# Altium integrated library 基本常见元器件.IntLib: 1193 symbols (part 5 of 5)
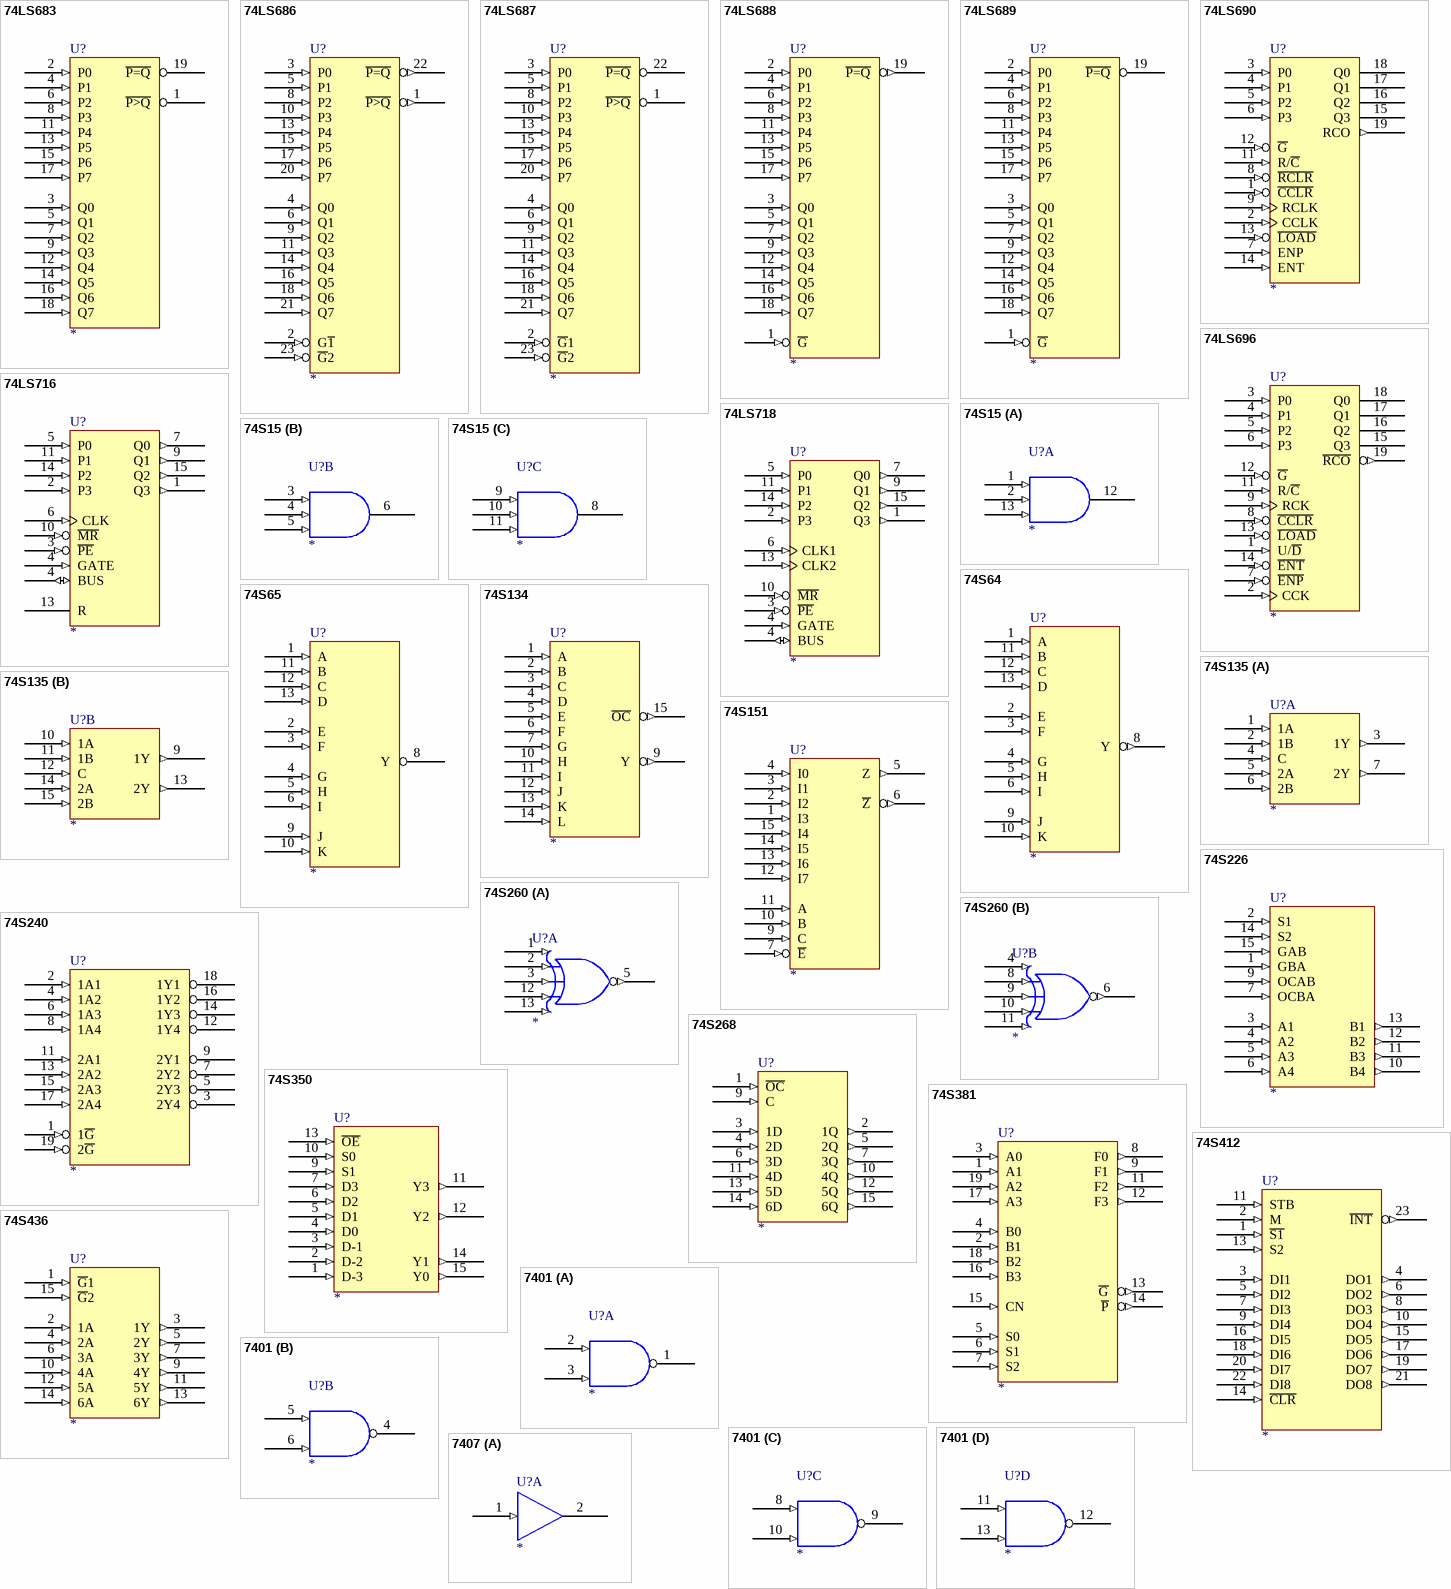
[diagram p58: symbols 74LS683 to 7407]

## 74S260
designator U?
footprint DIP-14
part A pins: 1 (in), 2 (in), 3 (in), 5 (out), 7 GND (power) hidden to GND, 12 (in), 13 (in), 14 VCC (power) hidden to VCC
part B pins: 4 (in), 6 (out), 7 GND (power) hidden to GND, 8 (in), 9 (in), 10 (in), 11 (in), 14 VCC (power) hidden to VCC

## 74S268
designator U?
footprint DIP-16
pins: 1 ~{OC} (in), 2 1Q (out), 3 1D (in), 4 2D (in), 5 2Q (out), 6 3D (in), 7 3Q (out), 8 GND (power) hidden to GND, 9 C (in), 10 4Q (out), 11 4D (in), 12 5Q (out), 13 5D (in), 14 6D (in), 15 6Q (out), 16 VCC (power) hidden to VCC

## 74S350
designator U?
footprint DIP-16
pins: 1 D-3 (in), 2 D-2 (in), 3 D-1 (in), 4 D0 (in), 5 D1 (in), 6 D2 (in), 7 D3 (in), 8 GND (power) hidden to GND, 9 S1 (in), 10 S0 (in), 11 Y3 (out), 12 Y2 (out), 13 ~{OE} (in), 14 Y1 (out), 15 Y0 (out), 16 VCC (power) hidden to VCC

## 74S381
designator U?
footprint DIP-20
pins: 1 A1 (in), 2 B1 (in), 3 A0 (in), 4 B0 (in), 5 S0 (in), 6 S1 (in), 7 S2 (in), 8 F0 (out), 9 F1 (out), 10 GND (power) hidden to GND, 11 F2 (out), 12 F3 (out), 13 ~{G} (out), 14 ~{P} (out), 15 CN (in), 16 B3 (in), 17 A3 (in), 18 B2 (in), 19 A2 (in), 20 VCC (power) hidden to VCC

## 74S412
designator U?
footprint DIP-24
pins: 1 ~{S1} (in), 2 M (in), 3 DI1 (in), 4 DO1 (out), 5 DI2 (in), 6 DO2 (out), 7 DI3 (in), 8 DO3 (out), 9 DI4 (in), 10 DO4 (out), 11 STB (in), 12 GND (power) hidden to GND, 13 S2 (in), 14 ~{CLR} (in), 15 DO5 (out), 16 DI5 (in), 17 DO6 (out), 18 DI6 (in), 19 DO7 (out), 20 DI7 (in), 21 DO8 (out), 22 DI8 (in), 23 ~{INT} (out), 24 VCC (power) hidden to VCC

## 74S436
designator U?
footprint DIP-16
pins: 1 ~{G}1 (in), 2 1A (in), 3 1Y (out), 4 2A (in), 5 2Y (out), 6 3A (in), 7 3Y (out), 8 GND (power) hidden to GND, 9 4Y (out), 10 4A (in), 11 5Y (out), 12 5A (in), 13 6Y (out), 14 6A (in), 15 ~{G}2 (in), 16 VCC (power) hidden to VCC

## 7401
designator U?
footprint DIP-14
part A pins: 1 (oc), 2 (in), 3 (in), 7 GND (power) hidden to GND, 14 VCC (power) hidden to VCC
part B pins: 4 (oc), 5 (in), 6 (in), 7 GND (power) hidden to GND, 14 VCC (power) hidden to VCC
part C pins: 7 GND (power) hidden to GND, 8 (in), 9 (oc), 10 (in), 14 VCC (power) hidden to VCC
part D pins: 7 GND (power) hidden to GND, 11 (in), 12 (oc), 13 (in), 14 VCC (power) hidden to VCC

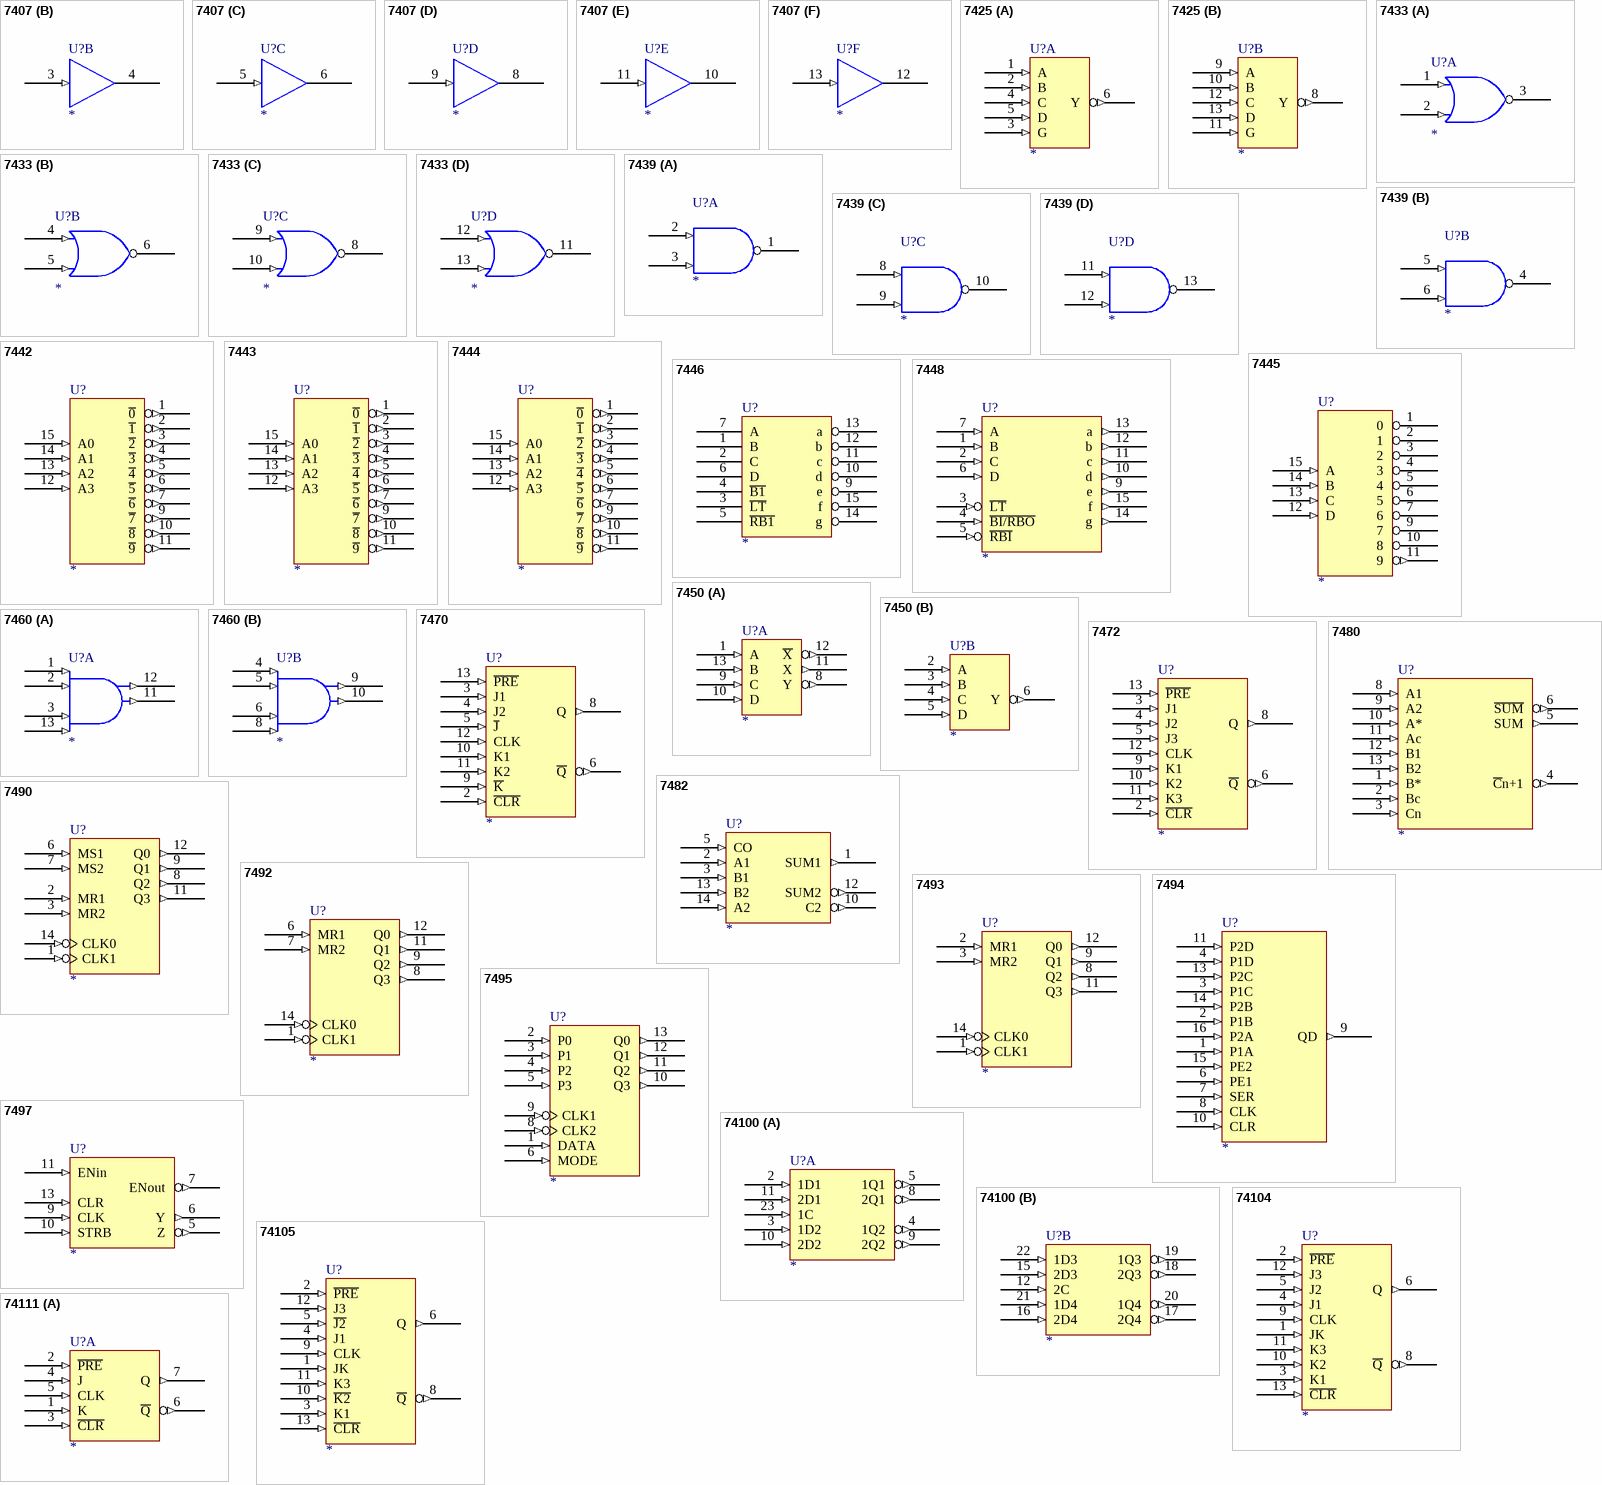
[diagram p42: symbols 7407 to 74111]

## 7407
designator U?
footprint DIP-14
part A pins: 1 (in), 2 (oc), 7 GND (power) hidden to GND, 14 VCC (power) hidden to VCC
part B pins: 3 (in), 4 (oc), 7 GND (power) hidden to GND, 14 VCC (power) hidden to VCC
part C pins: 5 (in), 6 (oc), 7 GND (power) hidden to GND, 14 VCC (power) hidden to VCC
part D pins: 7 GND (power) hidden to GND, 8 (oc), 9 (in), 14 VCC (power) hidden to VCC
part E pins: 7 GND (power) hidden to GND, 10 (oc), 11 (in), 14 VCC (power) hidden to VCC
part F pins: 7 GND (power) hidden to GND, 12 (oc), 13 (in), 14 VCC (power) hidden to VCC

## 7425
designator U?
footprint DIP-14
part A pins: 1 A (in), 2 B (in), 3 G (in), 4 C (in), 5 D (in), 6 Y (out), 7 GND (power) hidden to GND, 14 VCC (power) hidden to VCC
part B pins: 7 GND (power) hidden to GND, 8 Y (out), 9 A (in), 10 B (in), 11 G (in), 12 C (in), 13 D (in), 14 VCC (power) hidden to VCC

## 7433
designator U?
footprint DIP-14
part A pins: 1 (in), 2 (in), 3 (oc), 7 GND (power) hidden to GND, 14 VCC (power) hidden to VCC
part B pins: 4 (in), 5 (in), 6 (oc), 7 GND (power) hidden to GND, 14 VCC (power) hidden to VCC
part C pins: 7 GND (power) hidden to GND, 8 (oc), 9 (in), 10 (in), 14 VCC (power) hidden to VCC
part D pins: 7 GND (power) hidden to GND, 11 (oc), 12 (in), 13 (in), 14 VCC (power) hidden to VCC

## 7439
designator U?
footprint DIP-14
part A pins: 1 (oc), 2 (in), 3 (in), 7 GND (power) hidden to GND, 14 VCC (power) hidden to VCC
part B pins: 4 (oc), 5 (in), 6 (in), 7 GND (power) hidden to GND, 14 VCC (power) hidden to VCC
part C pins: 7 GND (power) hidden to GND, 8 (in), 9 (in), 10 (oc), 14 VCC (power) hidden to VCC
part D pins: 7 GND (power) hidden to GND, 11 (in), 12 (in), 13 (oc), 14 VCC (power) hidden to VCC

## 7442
designator U?
footprint DIP-16
pins: 1 ~{0} (out), 2 ~{1} (out), 3 ~{2} (out), 4 ~{3} (out), 5 ~{4} (out), 6 ~{5} (out), 7 ~{6} (out), 8 GND (power) hidden to GND, 9 ~{7} (out), 10 ~{8} (out), 11 ~{9} (out), 12 A3 (in), 13 A2 (in), 14 A1 (in), 15 A0 (in), 16 VCC (power) hidden to VCC

## 7443
designator U?
footprint DIP-16
pins: 1 ~{0} (out), 2 ~{1} (out), 3 ~{2} (out), 4 ~{3} (out), 5 ~{4} (out), 6 ~{5} (out), 7 ~{6} (out), 8 GND (power) hidden to GND, 9 ~{7} (out), 10 ~{8} (out), 11 ~{9} (out), 12 A3 (in), 13 A2 (in), 14 A1 (in), 15 A0 (in), 16 VCC (power) hidden to VCC

## 7444
designator U?
footprint DIP-16
pins: 1 ~{0} (out), 2 ~{1} (out), 3 ~{2} (out), 4 ~{3} (out), 5 ~{4} (out), 6 ~{5} (out), 7 ~{6} (out), 8 GND (power) hidden to GND, 9 ~{7} (out), 10 ~{8} (out), 11 ~{9} (out), 12 A3 (in), 13 A2 (in), 14 A1 (in), 15 A0 (in), 16 VCC (power) hidden to VCC

## 7445
designator U?
footprint DIP-16
pins: 1 0 (oc), 2 1 (oc), 3 2 (oc), 4 3 (oc), 5 4 (oc), 6 5 (oc), 7 6 (oc), 8 GND (power) hidden to GND, 9 7 (oc), 10 8 (oc), 11 9 (out), 12 D (in), 13 C (in), 14 B (in), 15 A (in), 16 VCC (power) hidden to VCC

## 7446
designator U?
footprint DIP-16
pins: 1 B, 2 C, 3 ~{LT}, 4 ~{B1}, 5 ~{RB1}, 6 D, 7 A, 8 GND (power) hidden to GND, 9 e (oc), 10 d (oc), 11 c (oc), 12 b (oc), 13 a (oc), 14 g (oc), 15 f (oc), 16 VCC (power) hidden to VCC

## 7448
designator U?
footprint DIP-16
pins: 1 B (in), 2 C (in), 3 ~{LT} (in), 4 ~{BI/RBO} (in), 5 ~{RBI} (in), 6 D (in), 7 A (in), 8 GND (power) hidden to GND, 9 e (out), 10 d (out), 11 c (out), 12 b (out), 13 a (out), 14 g (out), 15 f (out), 16 VCC (power) hidden to VCC

## 7450
designator U?
footprint DIP-14
part A pins: 1 A (in), 7 GND (power) hidden to GND, 8 Y (out), 9 C (in), 10 D (in), 11 X (out), 12 ~{X} (out), 13 B (in)
part B pins: 2 A (in), 3 B (in), 4 C (in), 5 D (in), 6 Y (out), 7 GND (power) hidden to GND

## 7460
designator U?
footprint DIP-14
part A pins: 1 (in), 2 (in), 3 (in), 7 GND (power) hidden to GND, 11 (out), 12 (out), 13 (in), 14 VCC (power) hidden to VCC
part B pins: 4 (in), 5 (in), 6 (in), 7 GND (power) hidden to GND, 8 (in), 9 (out), 10 (out), 14 VCC (power) hidden to VCC

## 7470
designator U?
footprint DIP-14
pins: 2 ~{CLR} (in), 3 J1 (in), 4 J2 (in), 5 ~{J} (in), 6 ~{Q} (out), 7 GND (power) hidden to GND, 8 Q (out), 9 ~{K} (in), 10 K1 (in), 11 K2 (in), 12 CLK (in), 13 ~{PRE} (in), 14 VCC (power) hidden to VCC

## 7472
designator U?
footprint DIP-14
pins: 2 ~{CLR} (in), 3 J1 (in), 4 J2 (in), 5 J3 (in), 6 ~{Q} (out), 7 GND (power) hidden to GND, 8 Q (out), 9 K1 (in), 10 K2 (in), 11 K3 (in), 12 CLK (in), 13 ~{PRE} (in), 14 VCC (power) hidden to VCC

## 7480
designator U?
footprint DIP-14
pins: 1 B* (in), 2 Bc (in), 3 Cn (in), 4 ~{C}n+1 (out), 5 SUM (out), 6 ~{SUM} (out), 7 GND (power) hidden to GND, 8 A1 (in), 9 A2 (in), 10 A* (in), 11 Ac (in), 12 B1 (in), 13 B2 (in), 14 VCC (power) hidden to VCC

## 7482
designator U?
footprint DIP-14
pins: 1 SUM1 (out), 2 A1 (in), 3 B1 (in), 4 VCC (power) hidden to VCC, 5 CO (in), 10 C2 (out), 11 GND (power) hidden to GND, 12 SUM2 (out), 13 B2 (in), 14 A2 (in)

## 7490
designator U?
footprint DIP-14
pins: 1 CLK1 (in), 2 MR1 (in), 3 MR2 (in), 5 VCC (power) hidden to VCC, 6 MS1 (in), 7 MS2 (in), 8 Q2 (out), 9 Q1 (out), 10 GND (power) hidden to GND, 11 Q3 (out), 12 Q0 (out), 14 CLK0 (in)

## 7492
designator U?
footprint DIP-14
pins: 1 CLK1 (in), 5 VCC (power) hidden to VCC, 6 MR1 (in), 7 MR2 (in), 8 Q3 (out), 9 Q2 (out), 10 GND (power) hidden to GND, 11 Q1 (out), 12 Q0 (out), 14 CLK0 (in)

## 7493
designator U?
footprint DIP-14
pins: 1 CLK1 (in), 2 MR1 (in), 3 MR2 (in), 5 VCC (power) hidden to VCC, 8 Q2 (out), 9 Q1 (out), 10 GND (power) hidden to GND, 11 Q3 (out), 12 Q0 (out), 14 CLK0 (in)

## 7494
designator U?
footprint DIP-16
pins: 1 P1A (in), 2 P1B (in), 3 P1C (in), 4 P1D (in), 5 VCC (power) hidden to VCC, 6 PE1 (in), 7 SER (in), 8 CLK (in), 9 QD (out), 10 CLR (in), 11 P2D (in), 12 GND (power) hidden to GND, 13 P2C (in), 14 P2B (in), 15 PE2 (in), 16 P2A (in)

## 7495
designator U?
footprint DIP-16
pins: 1 DATA (in), 2 P0 (in), 3 P1 (in), 4 P2 (in), 5 P3 (in), 6 MODE (in), 7 GND (power) hidden to GND, 8 CLK2 (in), 9 CLK1 (in), 10 Q3 (out), 11 Q2 (out), 12 Q1 (out), 13 Q0 (out), 16 VCC (power) hidden to VCC

## 7497
designator U?
footprint DIP-16
pins: 5 Z (out), 6 Y (out), 7 ENout (out), 8 GND (power) hidden to GND, 9 CLK (in), 10 STRB (in), 11 ENin (in), 13 CLR (in), 16 VCC (power) hidden to VCC

## 74100
designator U?
footprint DIP-24
part A pins: 2 1D1 (in), 3 1D2 (in), 4 1Q2 (out), 5 1Q1 (out), 7 GND (power) hidden to GND, 8 2Q1 (out), 9 2Q2 (out), 10 2D2 (in), 11 2D1 (in), 23 1C (in)
part B pins: 7 GND (power) hidden to GND, 12 2C (in), 15 2D3 (in), 16 2D4 (in), 17 2Q4 (out), 18 2Q3 (out), 19 1Q3 (out), 20 1Q4 (out), 21 1D4 (in), 22 1D3 (in)

## 74104
designator U?
footprint DIP-14
pins: 1 JK (in), 2 ~{PRE} (in), 3 K1 (in), 4 J1 (in), 5 J2 (in), 6 Q (out), 7 GND (power) hidden to GND, 8 ~{Q} (out), 9 CLK (in), 10 K2 (in), 11 K3 (in), 12 J3 (in), 13 ~{CLR} (in), 14 VCC (power) hidden to VCC

## 74105
designator U?
footprint DIP-14
pins: 1 JK (in), 2 ~{PRE} (in), 3 K1 (in), 4 J1 (in), 5 ~{J2} (in), 6 Q (out), 7 GND (power) hidden to GND, 8 ~{Q} (out), 9 CLK (in), 10 ~{K2} (in), 11 K3 (in), 12 J3 (in), 13 ~{CLR} (in), 14 VCC (power) hidden to VCC

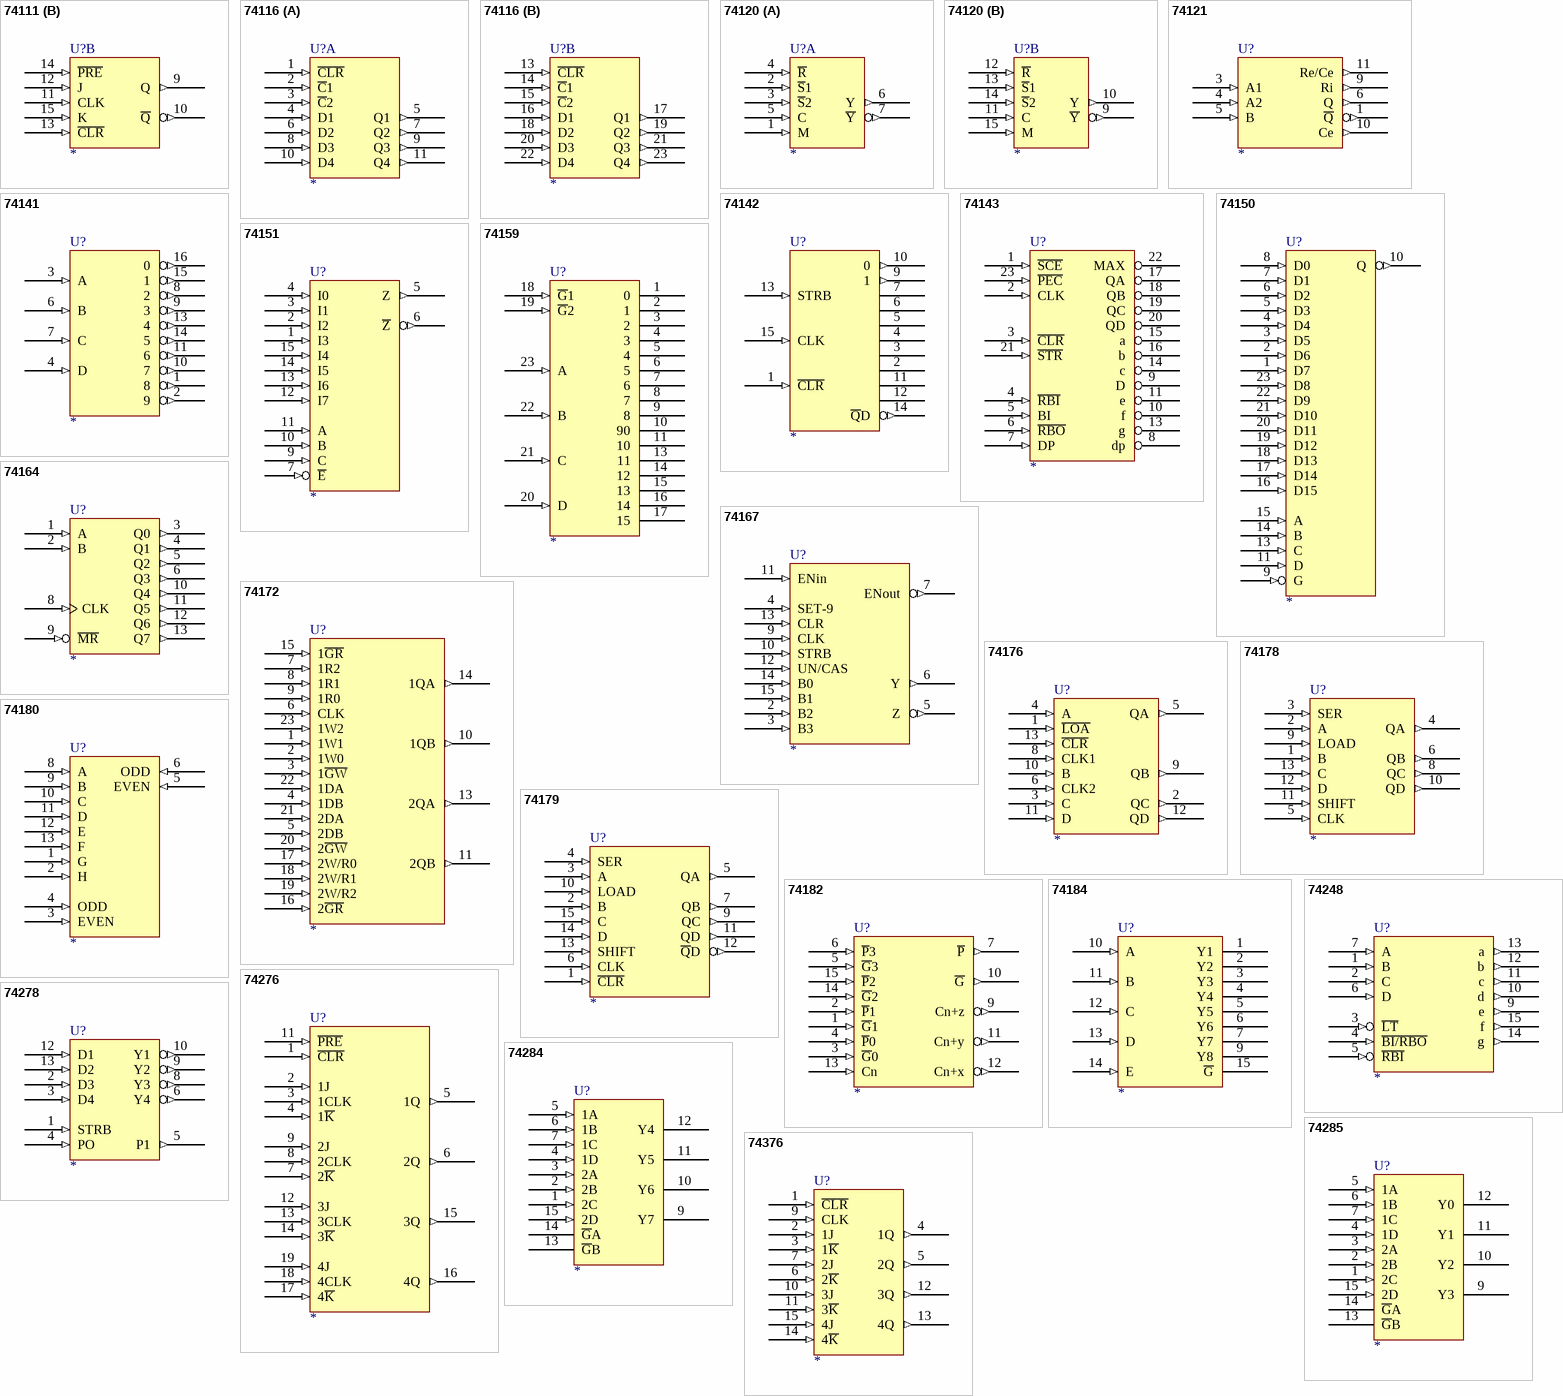
[diagram p43: symbols 74111 to 74376]

## 74111
designator U?
footprint DIP-16
part A pins: 1 K (in), 2 ~{PRE} (in), 3 ~{CLR} (in), 4 J (in), 5 CLK (in), 6 ~{Q} (out), 7 Q (out), 8 GND (power) hidden to GND, 16 VCC (power) hidden to VCC
part B pins: 8 GND (power) hidden to GND, 9 Q (out), 10 ~{Q} (out), 11 CLK (in), 12 J (in), 13 ~{CLR} (in), 14 ~{PRE} (in), 15 K (in), 16 VCC (power) hidden to VCC

## 74116
designator U?
footprint DIP-24
part A pins: 1 ~{CLR} (in), 2 ~{C}1 (in), 3 ~{C}2 (in), 4 D1 (in), 5 Q1 (out), 6 D2 (in), 7 Q2 (out), 8 D3 (in), 9 Q3 (out), 10 D4 (in), 11 Q4 (out), 12 GND (power) hidden to GND, 24 VCC (power) hidden to VCC
part B pins: 12 GND (power) hidden to GND, 13 ~{CLR} (in), 14 ~{C}1 (in), 15 ~{C}2 (in), 16 D1 (in), 17 Q1 (out), 18 D2 (in), 19 Q2 (out), 20 D3 (in), 21 Q3 (out), 22 D4 (in), 23 Q4 (out), 24 VCC (power) hidden to VCC

## 74120
designator U?
footprint DIP-16
part A pins: 1 M (in), 2 ~{S}1 (in), 3 ~{S}2 (in), 4 ~{R} (in), 5 C (in), 6 Y (out), 7 ~{Y} (out), 8 GND (power) hidden to GND, 16 VCC (power) hidden to VCC
part B pins: 8 GND (power) hidden to GND, 9 ~{Y} (out), 10 Y (out), 11 C (in), 12 ~{R} (in), 13 ~{S}1 (in), 14 ~{S}2 (in), 15 M (in), 16 VCC (power) hidden to VCC

## 74121
designator U?
footprint DIP-14
pins: 1 ~{Q} (out), 3 A1 (in), 4 A2 (in), 5 B (in), 6 Q (out), 7 GND (power) hidden to GND, 9 Ri (out), 10 Ce (out), 11 Re/Ce (out), 14 VCC (power) hidden to VCC

## 74141
designator U?
footprint DIP-16
pins: 1 8 (out), 2 9 (out), 3 A (in), 4 D (in), 5 VCC (power) hidden to VCC, 6 B (in), 7 C (in), 8 2 (out), 9 3 (out), 10 7 (out), 11 6 (out), 12 GND (power) hidden to GND, 13 4 (out), 14 5 (out), 15 1 (out), 16 0 (out)

## 74142
designator U?
footprint DIP-16
pins: 1 ~{CLR} (in), 2, 3, 4, 5, 6, 7, 8 GND (power) hidden to GND, 9 1 (out), 10 0 (out), 11, 12, 13 STRB (in), 14 ~{Q}D (out), 15 CLK (in), 16 VCC (power) hidden to VCC

## 74143
designator U?
footprint DIP-24
pins: 1 ~{SCE} (in), 2 CLK (in), 3 ~{CLR} (in), 4 ~{RBI} (in), 5 BI (in), 6 ~{RBO} (in), 7 DP (in), 8 dp (oc), 9 D (oc), 10 f (oc), 11 e (oc), 12 GND (power) hidden to GND, 13 g (oc), 14 c (oc), 15 a (oc), 16 b (oc), 17 QA (oc), 18 QB (oc), 19 QC (oc), 20 QD (oc), 21 ~{STR} (in), 22 MAX (oc), 23 ~{PEC} (in), 24 VCC (power) hidden to VCC

## 74150
designator U?
footprint DIP-24
pins: 1 D7 (in), 2 D6 (in), 3 D5 (in), 4 D4 (in), 5 D3 (in), 6 D2 (in), 7 D1 (in), 8 D0 (in), 9 G (in), 10 Q (out), 11 D (in), 12 GND (power) hidden to GND, 13 C (in), 14 B (in), 15 A (in), 16 D15 (in), 17 D14 (in), 18 D13 (in), 19 D12 (in), 20 D11 (in), 21 D10 (in), 22 D9 (in), 23 D8 (in), 24 VCC (power) hidden to VCC

## 74151
designator U?
footprint DIP-16
pins: 1 I3 (in), 2 I2 (in), 3 I1 (in), 4 I0 (in), 5 Z (out), 6 ~{Z} (out), 7 ~{E} (in), 8 GND (power) hidden to GND, 9 C (in), 10 B (in), 11 A (in), 12 I7 (in), 13 I6 (in), 14 I5 (in), 15 I4 (in), 16 VCC (power) hidden to VCC

## 74159
designator U?
footprint DIP-24
pins: 1 0 (oc), 2 1 (oc), 3 2 (oc), 4 3 (oc), 5 4 (oc), 6 5 (oc), 7 6 (oc), 8 7 (oc), 9 8 (oc), 10 90 (oc), 11 10 (oc), 12 GND (power) hidden to GND, 13 11 (oc), 14 12 (oc), 15 13 (oc), 16 14 (oc), 17 15 (oc), 18 ~{G}1 (in), 19 ~{G}2 (in), 20 D (in), 21 C (in), 22 B (in), 23 A (in), 24 VCC (power) hidden to VCC

## 74164
designator U?
footprint DIP-14
pins: 1 A (in), 2 B (in), 3 Q0 (out), 4 Q1 (out), 5 Q2 (out), 6 Q3 (out), 7 GND (power) hidden to GND, 8 CLK (in), 9 ~{MR} (in), 10 Q4 (out), 11 Q5 (out), 12 Q6 (out), 13 Q7 (out), 14 VCC (power) hidden to VCC

## 74167
designator U?
footprint DIP-16
pins: 1 VCC (power) hidden to VCC, 2 B2 (in), 3 B3 (in), 4 SET-9 (in), 5 Z (out), 6 Y (out), 7 ENout (out), 8 GND (power) hidden to GND, 9 CLK (in), 10 STRB (in), 11 ENin (in), 12 UN/CAS (in), 13 CLR (in), 14 B0 (in), 15 B1 (in)

## 74172
designator U?
footprint DIP-24
pins: 1 1W1 (in), 2 1W0 (in), 3 1~{GW} (in), 4 1DB (in), 5 2DB (in), 6 CLK (in), 7 1R2 (in), 8 1R1 (in), 9 1R0 (in), 10 1QB (out), 11 2QB (out), 12 GND (power) hidden to GND, 13 2QA (out), 14 1QA (out), 15 1~{GR} (in), 16 2~{GR} (in), 17 2W/R0 (in), 18 2W/R1 (in), 19 2W/R2 (in), 20 2~{GW} (in), 21 2DA (in), 22 1DA (in), 23 1W2 (in), 24 VCC (power) hidden to VCC

## 74176
designator U?
footprint DIP-14
pins: 1 ~{LOA} (in), 2 QC (out), 3 C (in), 4 A (in), 5 QA (out), 6 CLK2 (in), 7 GND (power) hidden to GND, 8 CLK1 (in), 9 QB (out), 10 B (in), 11 D (in), 12 QD (out), 13 ~{CLR} (in), 14 VCC (power) hidden to VCC

## 74178
designator U?
footprint DIP-14
pins: 1 B (in), 2 A (in), 3 SER (in), 4 QA (out), 5 CLK (in), 6 QB (out), 7 GND (power) hidden to GND, 8 QC (out), 9 LOAD (in), 10 QD (out), 11 SHIFT (in), 12 D (in), 13 C (in), 14 VCC (power) hidden to VCC

## 74179
designator U?
footprint DIP-16
pins: 1 ~{CLR} (in), 2 B (in), 3 A (in), 4 SER (in), 5 QA (out), 6 CLK (in), 7 QB (out), 8 GND (power) hidden to GND, 9 QC (out), 10 LOAD (in), 11 QD (out), 12 ~{Q}D (out), 13 SHIFT (in), 14 D (in), 15 C (in), 16 VCC (power) hidden to VCC

## 74180
designator U?
footprint DIP-14
pins: 1 G (in), 2 H (in), 3 EVEN (in), 4 ODD (in), 5 EVEN (in), 6 ODD (in), 7 GND (power) hidden to GND, 8 A (in), 9 B (in), 10 C (in), 11 D (in), 12 E (in), 13 F (in), 14 VCC (power) hidden to VCC

## 74182
designator U?
footprint DIP-16
pins: 1 ~{G}1 (in), 2 ~{P}1 (in), 3 ~{G}0 (in), 4 ~{P}0 (in), 5 ~{G}3 (in), 6 ~{P}3 (in), 7 ~{P} (out), 8 GND (power) hidden to GND, 9 Cn+z (out), 10 ~{G} (out), 11 Cn+y (out), 12 Cn+x (out), 13 Cn (in), 14 ~{G}2 (in), 15 ~{P}2 (in), 16 VCC (power) hidden to VCC

## 74184
designator U?
footprint DIP-16
pins: 1 Y1 (oc), 2 Y2 (oc), 3 Y3 (oc), 4 Y4 (oc), 5 Y5 (oc), 6 Y6 (oc), 7 Y7 (oc), 8 GND (power) hidden to GND, 9 Y8 (oc), 10 A (in), 11 B (in), 12 C (in), 13 D (in), 14 E (in), 15 ~{G} (oc), 16 VCC (power) hidden to VCC

## 74248
designator U?
footprint DIP-16
pins: 1 B (in), 2 C (in), 3 ~{LT} (in), 4 ~{BI/RBO} (in), 5 ~{RBI} (in), 6 D (in), 7 A (in), 8 GND (power) hidden to GND, 9 e (out), 10 d (out), 11 c (out), 12 b (out), 13 a (out), 14 g (out), 15 f (out), 16 VCC (power) hidden to VCC

## 74276
designator U?
footprint DIP-20
pins: 1 ~{CLR} (in), 2 1J (in), 3 1CLK (in), 4 1~{K} (in), 5 1Q (out), 6 2Q (out), 7 2~{K} (in), 8 2CLK (in), 9 2J (in), 10 GND (power) hidden to GND, 11 ~{PRE} (in), 12 3J (in), 13 3CLK (in), 14 3~{K} (in), 15 3Q (out), 16 4Q (out), 17 4~{K} (in), 18 4CLK (in), 19 4J (in), 20 VCC (power) hidden to VCC

## 74278
designator U?
footprint DIP-14
pins: 1 STRB (in), 2 D3 (in), 3 D4 (in), 4 PO (in), 5 P1 (out), 6 Y4 (out), 7 GND (power) hidden to GND, 8 Y3 (out), 9 Y2 (out), 10 Y1 (out), 12 D1 (in), 13 D2 (in), 14 VCC (power) hidden to VCC

## 74284
designator U?
footprint DIP-16
pins: 1 2C (in), 2 2B (in), 3 2A (in), 4 1D (in), 5 1A (in), 6 1B (in), 7 1C (in), 8 GND (power) hidden to GND, 9 Y7 (oc), 10 Y6 (oc), 11 Y5 (oc), 12 Y4 (oc), 13 ~{G}B, 14 ~{G}A, 15 2D (in), 16 VCC (power) hidden to VCC

## 74285
designator U?
footprint DIP-16
pins: 1 2C (in), 2 2B (in), 3 2A (in), 4 1D (in), 5 1A (in), 6 1B (in), 7 1C (in), 8 GND (power) hidden to GND, 9 Y3 (oc), 10 Y2 (oc), 11 Y1 (oc), 12 Y0 (oc), 13 ~{G}B, 14 ~{G}A, 15 2D (in), 16 VCC (power) hidden to VCC

## 74376
designator U?
footprint DIP-16
pins: 1 ~{CLR} (in), 2 1J (in), 3 1~{K} (in), 4 1Q (out), 5 2Q (out), 6 2~{K} (in), 7 2J (in), 8 GND (power) hidden to GND, 9 CLK (in), 10 3J (in), 11 3~{K} (in), 12 3Q (out), 13 4Q (out), 14 4~{K} (in), 15 4J (in), 16 VCC (power) hidden to VCC


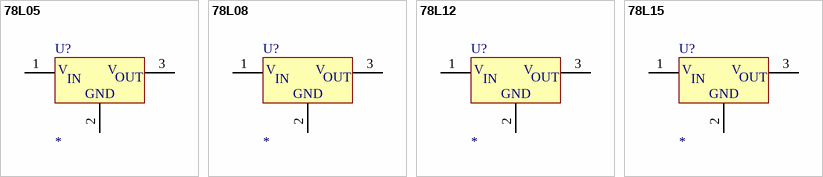
[diagram p44: symbols 78L05 to 78L15]

## 78L05
designator U?
3-Terminal Positive Voltage Regulator
footprint 78XX
simulation model 78L05 (SUBCKT)
pins: 1 VIN, 2 GND, 3 VOUT
text: V; IN; OUT

## 78L08
designator U?
3-Terminal Positive Voltage Regulator
footprint 78XX
simulation model 78L08 (SUBCKT)
pins: 1 VIN, 2 GND, 3 VOUT
text: V; IN; OUT

## 78L12
designator U?
3-Terminal Positive Voltage Regulator
footprint 78XX
simulation model 78L12 (SUBCKT)
pins: 1 VIN, 2 GND, 3 VOUT
text: V; IN; OUT

## 78L15
designator U?
3-Terminal Positive Voltage Regulator
footprint 78XX
simulation model 78L15 (SUBCKT)
pins: 1 VIN, 2 GND, 3 VOUT
text: V; IN; OUT


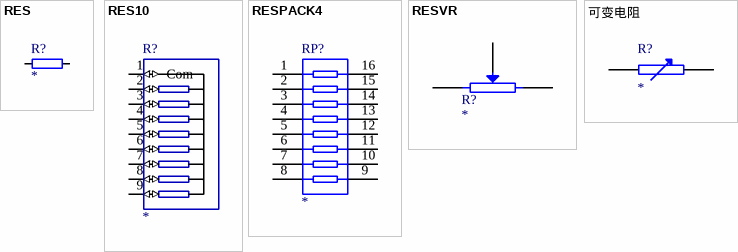
[diagram p45: symbols RES to 可变电阻]

## RES
designator R?
footprint AXIAL0.3
footprint AXIAL0.4
footprint AXIAL0.5
pins: 1, 2

## RES10
designator R?
footprint SIP9
pins: 1 Com (io), 2 (io), 3 (io), 4 (io), 5 (io), 6 (io), 7 (io), 8 (io), 9 (io)

## RESPACK4
designator RP?
footprint DIP16
pins: 1, 2, 3, 4, 5, 6, 7, 8, 9, 10, 11, 12, 13, 14, 15, 16

## RESVR
designator R?
Potentiometer
footprint VR
pins: 1, 2, 3 W

## 可变电阻
designator R?
pins: 1, 2


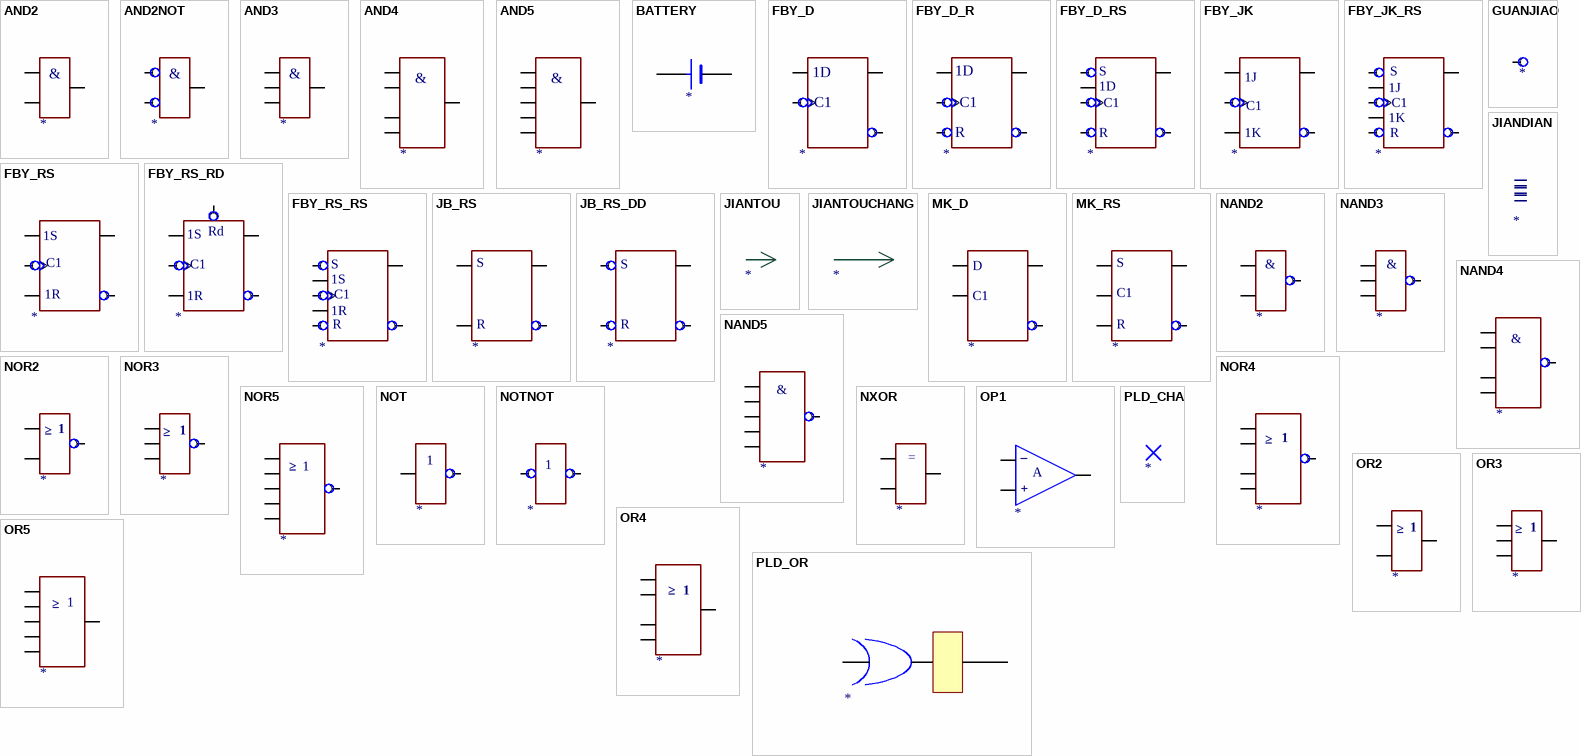
[diagram p46: symbols AND2 to PLD_OR]

## AND2
designator ?
pins: 4, 5, 6
text: &

## AND2NOT
designator ?
pins: 4, 5, 6
text: &

## AND3
designator ?
pins: 4, 5, 6, 7
text: &

## AND4
designator ?
pins: 4, 5, 6, 7, 8
text: &

## AND5
designator ?
pins: 4, 5, 6, 7, 8, 14
text: &

## BATTERY
designator ?
pins: 1 +, 2 -

## FBY_D
designator ?
pins: 17, 18, 19, 20
text: 1D; C1

## FBY_D_R
designator ?
pins: 17, 18, 19, 20, 29
text: 1D; C1; R

## FBY_D_RS
designator ?
pins: 17, 18, 19, 20, 28, 29
text: S; 1D; C1; R

## FBY_JK
designator ?
pins: 17, 18, 19, 20, 21
text: 1J; C1; 1K

## FBY_JK_RS
designator ?
pins: 17, 18, 19, 20, 21, 24, 25
text: S; 1J; C1; 1K; R

## FBY_RS
designator ?
pins: 17, 18, 19, 20, 21
text: 1S; C1; 1R

## FBY_RS_RD
designator ?
pins: 17, 18, 19, 20, 21, 26
text: 1S; Rd; C1; 1R

## FBY_RS_RS
designator ?
pins: 17, 18, 19, 20, 21, 26, 27
text: S; 1S; C1; 1R; R

## GUANJIAO
designator ?
pins: 37

## JB_RS
designator ?
pins: 17, 18, 19, 20
text: S; R

## JB_RS_DD
designator ?
pins: 17, 18, 19, 20
text: S; R

## JIANDIAN
designator ?

## JIANTOU
designator ?

## JIANTOUCHANG
designator ?

## MK_D
designator ?
pins: 17 D, 18, 19, 21
text: C1

## MK_RS
designator ?
pins: 17, 18, 19, 20, 21
text: S; C1; R

## NAND2
designator ?
pins: 4, 5, 6
text: &

## NAND3
designator ?
pins: 4, 5, 6, 7
text: &

## NAND4
designator ?
pins: 4, 5, 6, 7, 8
text: &

## NAND5
designator ?
pins: 4, 5, 6, 7, 8, 13
text: &

## NOR2
designator ?
pins: 4, 5, 6
text: ≥; 1

## NOR3
designator ?
pins: 4, 5, 6, 12
text: 1; ≥

## NOR4
designator ?
pins: 4, 5, 6, 10, 11
text: 1; ≥

## NOR5
designator ?
pins: 4, 5, 6, 10, 11, 16
text: ≥; 1

## NOT
designator ?
pins: 4, 6
text: 1

## NOTNOT
designator ?
pins: 4, 6
text: 1

## NXOR
designator ?
pins: 4, 5, 6

## OP1
designator ?
pins: 38, 39, 40
text: _; A; +

## OR2
designator ?
pins: 4, 5, 6
text: 1; ≥

## OR3
designator ?
pins: 4, 5, 6, 12
text: 1; ≥

## OR4
designator ?
pins: 4, 5, 6, 10, 11
text: ≥; 1

## OR5
designator ?
pins: 4, 5, 6, 10, 11, 15
text: ≥; 1

## PLD_CHA
designator ?

## PLD_OR
designator ?
pins: 70, 75, 76

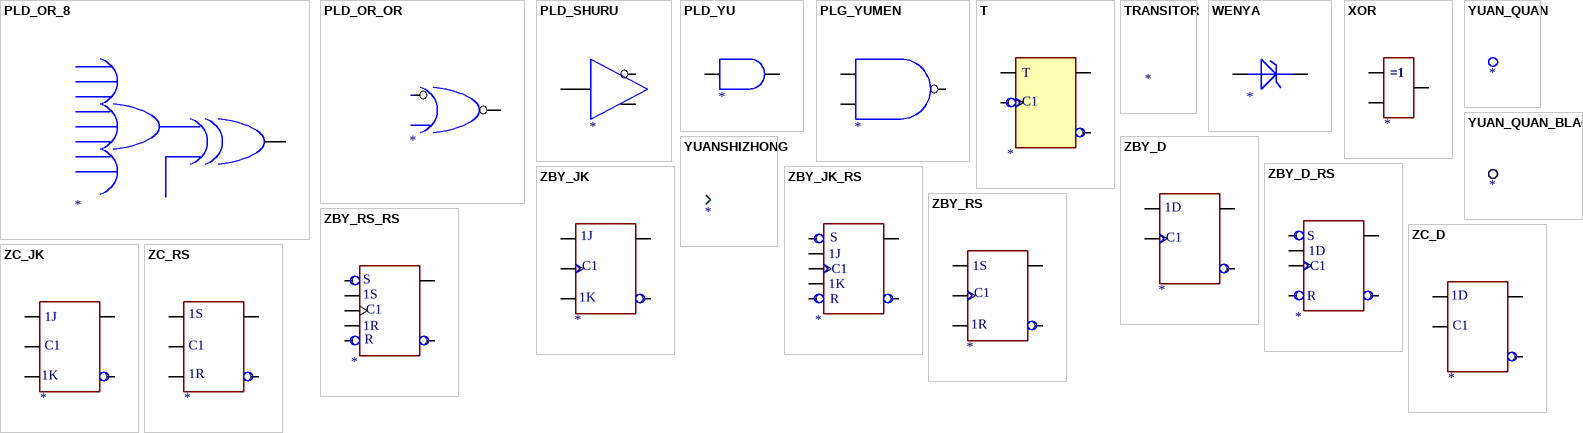
[diagram p47: symbols PLD_OR_8 to ZC_RS]

## PLD_OR_8
designator ?
pins: 75

## PLD_OR_OR
designator ?
pins: 74, 75

## PLD_SHURU
designator ?
pins: 70, 71, 72

## PLD_YU
designator ?
pins: 73, 74

## PLG_YUMEN
designator ?
pins: 71, 72, 73

## T
designator ?
pins: 17, 18, 19, 20
text: C1

## TRANSITOR
designator ?

## WENYA
designator ?
pins: 1 A, 2 K

## XOR
designator ?
pins: 4, 5, 6

## YUAN_QUAN
designator ?

## YUAN_QUAN_BLACK
designator ?

## YUANSHIZHONG
designator ?

## ZBY_D
designator ?
pins: 17, 18, 19, 20
text: 1D; C1

## ZBY_D_RS
designator ?
pins: 17, 18, 19, 20, 22, 23
text: S; 1D; C1; R

## ZBY_JK
designator ?
pins: 17, 18, 19, 20, 21
text: 1J; C1; 1K

## ZBY_JK_RS
designator ?
pins: 17, 18, 19, 20, 21, 24, 25
text: S; 1J; C1; 1K; R

## ZBY_RS
designator ?
pins: 17, 18, 19, 20, 21
text: 1S; C1; 1R

## ZBY_RS_RS
designator ?
pins: 17, 18, 19, 20, 21, 26, 27
text: S; 1S; C1; 1R; R

## ZC_D
designator ?
pins: 17, 18, 19, 20
text: 1D; C1

## ZC_JK
designator ?
pins: 17, 18, 19, 20, 21
text: 1J; C1; 1K

## ZC_RS
designator ?
pins: 17, 18, 19, 20, 21
text: 1S; C1; 1R


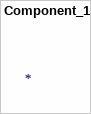
[diagram p48: symbol Component_1]

## Component_1
designator ?


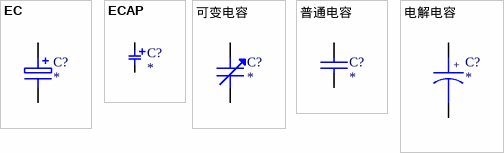
[diagram p49: symbols EC to 电解电容]

## EC
designator C?
footprint RB.1/.2
footprint RB.1/.2A
footprint RB.2/.4
footprint CD4
pins: 1, 2 E

## ECAP
designator C?
footprint CD4
footprint CD5
footprint CD6
footprint CD7
pins: 1, 2

## 可变电容
designator C?
Variable Capacitor
pins: 1, 2

## 普通电容
designator C?
Capacitor
footprint RAD0.1
footprint RAD0.2
footprint RAD0.3
pins: 1, 2

## 电解电容
designator C?
Capacitor
pins: 1, 2
text: +


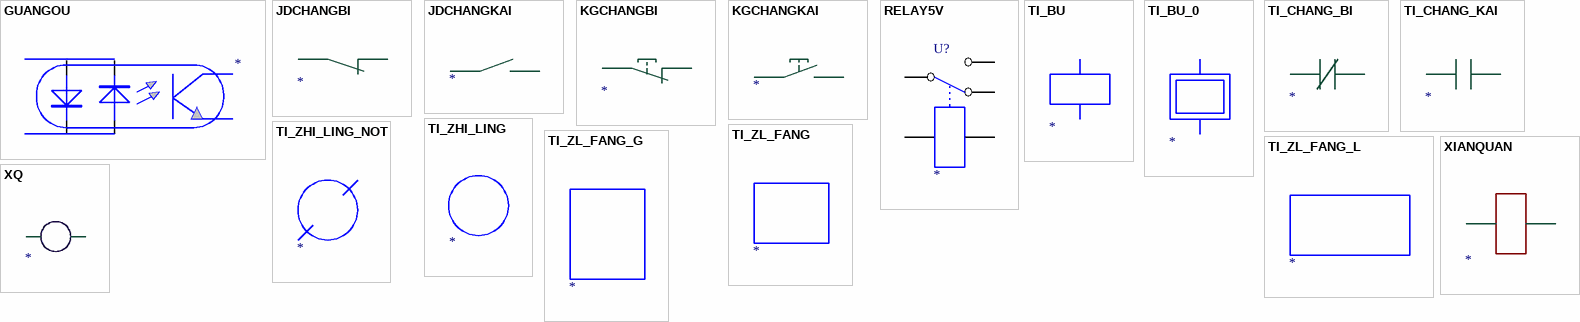
[diagram p50: symbols GUANGOU to XQ]

## GUANGOU
designator ?
pins: 1 A, 1 A, 2 K, 2 K

## JDCHANGBI
designator ?

## JDCHANGKAI
designator ?

## KGCHANGBI
designator ?

## KGCHANGKAI
designator ?

## RELAY5V
designator U?
footprint Relay5V
pins: 1, 2, 3, 4, 5

## TI_BU
designator ?

## TI_BU_0
designator ?

## TI_CHANG_BI
designator ?

## TI_CHANG_KAI
designator ?

## TI_ZHI_LING
designator ?

## TI_ZHI_LING_NOT
designator ?

## TI_ZL_FANG
designator ?

## TI_ZL_FANG_G
designator ?

## TI_ZL_FANG_L
designator ?

## XIANQUAN
designator ?

## XQ
designator ?


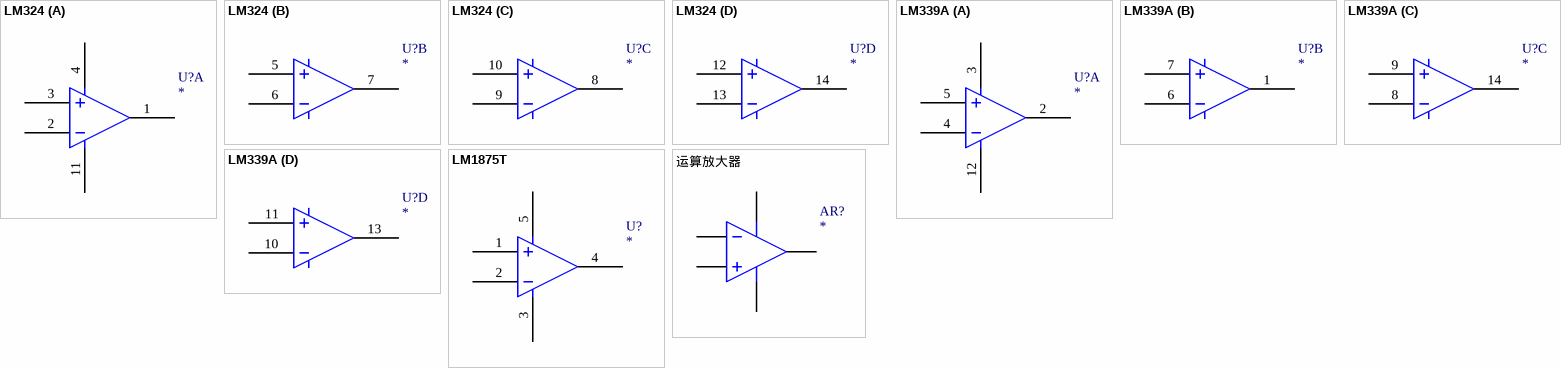
[diagram p51: symbols LM324 to 运算放大器]

## LM324
designator U?
footprint DIP-14
part A pins: 1, 2, 3, 4, 11
part B pins: 5, 6, 7
part C pins: 8, 9, 10
part D pins: 12, 13, 14

## LM339A
designator U?
footprint DIP-14
part A pins: 2, 3, 4, 5, 12
part B pins: 1, 6, 7
part C pins: 8, 9, 14
part D pins: 10, 11, 13

## LM1875T
designator U?
footprint TO-220
pins: 1, 2, 3, 4, 5

## 运算放大器
designator AR?
Operational Amplifier
pins: 1 IN-, 2 IN+, 3 OUT, 4 V+, 5 V-


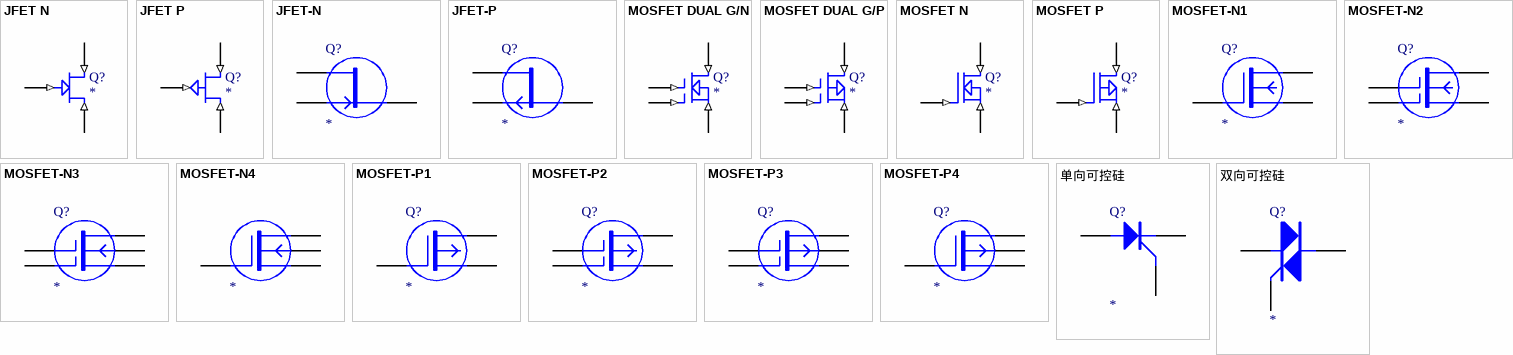
[diagram p52: symbols JFET N to 双向可控硅]

## JFET N
designator Q?
pins: 1 G (in), 2 D (in), 3 S (in)

## JFET P
designator Q?
pins: 1 G (in), 2 D (in), 3 S (in)

## JFET-N
designator Q?
pins: 1 D, 2 G, 3 S

## JFET-P
designator Q?
pins: 1 D, 2 G, 3 S

## MOSFET DUAL G/N
designator Q?
pins: 1 G1 (in), 2 G2 (in), 3 D (in), 4 S (in)

## MOSFET DUAL G/P
designator Q?
pins: 1 G1 (in), 2 G2 (in), 3 D (in), 4 S (in)

## MOSFET N
designator Q?
pins: 1 G (in), 2 D (in), 3 S (in)

## MOSFET P
designator Q?
pins: 1 G (in), 2 D (in), 3 S (in)

## MOSFET-N1
designator Q?
pins: 1 G, 2 D, 3 S

## MOSFET-N2
designator Q?
pins: 1 G1, 2 G2, 3 D, 4 S

## MOSFET-N3
designator Q?
pins: 1 G1, 2 G2, 3 D, 4 U, 5 S

## MOSFET-N4
designator ?
pins: 1 G, 2 D, 3 U, 4 S

## MOSFET-P1
designator Q?
pins: 1 G, 2 D, 3 S

## MOSFET-P2
designator Q?
pins: 1 G1, 2 G2, 3 D, 4 S

## MOSFET-P3
designator Q?
pins: 1 G1, 2 G2, 3 D, 4 U, 5 S

## MOSFET-P4
designator Q?
pins: 1 G, 2 D, 3 U, 4 S

## 单向可控硅
designator Q?
pins: 1 A, 2 K, 3 G

## 双向可控硅
designator Q?
pins: 1 T, 2 T, 3 G


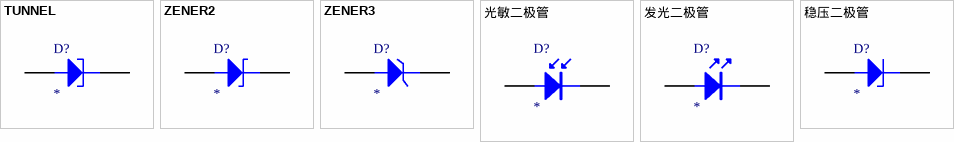
[diagram p53: symbols TUNNEL to 稳压二极管]

## TUNNEL
designator D?
Tunnel FDiode
pins: 1 A, 2 K

## ZENER2
designator D?
Zener Diode
pins: 1 A, 2 K

## ZENER3
designator D?
Zener Diode
pins: 1 A, 2 K

## 光敏二极管
designator D?
Photosensitive Diode
pins: 1 A, 2 K

## 发光二极管
designator D?
footprint DIODE0.4A
pins: A 1, K 2

## 稳压二极管
designator D?
Zener Diode
pins: 1 A, 2 K


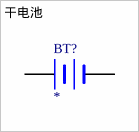
[diagram p54: symbol 干电池]

## 干电池
designator BT?
Battery
pins: 1 +, 2 -